# Altium footprint library Capacitors.PcbLib: 4 footprints
Each footprint in its own frame and in the unit in brackets; x right, y up, seen from the top. Pads: shape width x height; smd on the part's side, far side on the other; paste and mask are expansions set on the pad; w line width, h text height; cw(c..) or ccw(c..) is an arc to the next point about the centre after c.
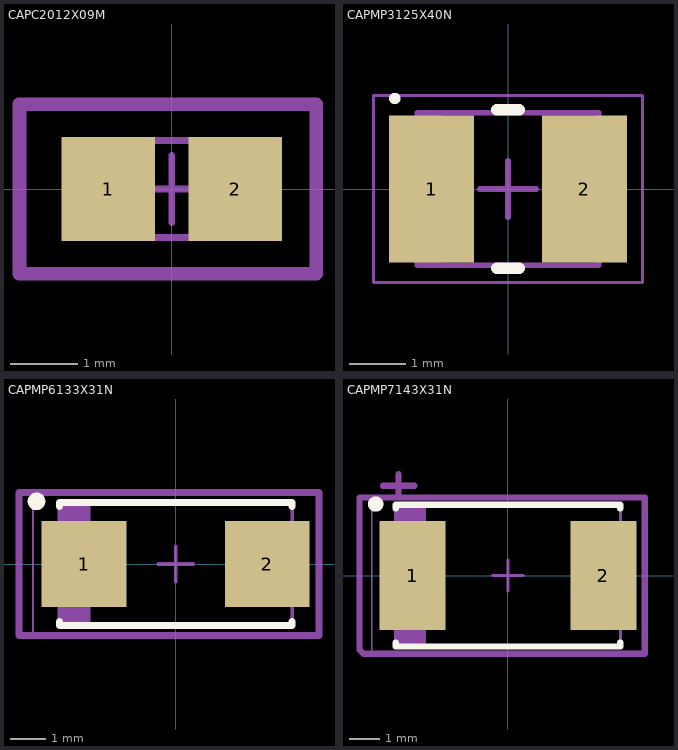
[diagram p0: the footprints below, top view; thin cyan lines are the x and y axes]

## CAPC2012X09M [mm] "Chip Capacitor, 2-Leads, Body 2,01x1,25mm, IPC Low Density"
height 0.94
pads (2):
  rect 1.4x1.55 smd: 1(-0.95,0) 2(0.95,0)
Mechanical 13:
  lines w0.1: -1.105,-0.725 1.105,-0.725 1.105,0.725 -1.105,0.725 -1.105,-0.725
Mechanical 15:
  lines w0.05: -2.2,-1.3 2.2,-1.3 2.2,1.3 -2.2,1.3 -2.2,-1.3
  lines w0.1: -0.5,0 0.5,0 ; 0,-0.5 0,0.5
AsmTop:
  lines w0.2: -2.286,-1.27 -2.286,1.27 2.159,1.27 2.159,-1.27 -2.286,-1.27
  text ".Comment" at -2.032,-0.635 h0.8
3D body: height 0.94, standoff 0, extent 0.605,-0.725 1.105,0.725
3D body: height 0.94, standoff 0, extent -1.105,-0.725 -0.605,0.725
3D body: height 0.94, standoff 0, extent -0.605,-0.725 0.605,0.725

## CAPMP3125X40N [mm] "Molded Capacitor, 2-Leads, Body 3,10x2,50mm, IPC Medium Density"
height 4
pads (2):
  rect 1.5x2.6 smd: 1(-1.35,0) 2(1.35,0)
Top Overlay:
  circle w0.1: c-2,1.6 r0.05
  lines w0.2: -0.2,-1.4 0.2,-1.4 ; -0.2,1.4 0.2,1.4
Mechanical 13:
  rectangle: -1.6,-1.35 -1.17,1.35
  lines w0.1: -1.6,-1.35 -1.6,1.35 1.6,1.35 1.6,-1.35 -1.6,-1.35
Mechanical 15:
  lines w0.05: -2.375,-1.65 -2.375,1.65 2.375,1.65 2.375,-1.65 -2.375,-1.65
  lines w0.1: -0.5,0 0.5,0 ; 0,-0.5 0,0.5
3D body: height 4, standoff 0, extent -1.6,-1.35 1.6,1.35

## CAPMP6133X31N [mm] "CASE C Molded Capacitor, 2-Leads, Body 6.15x3.30mm, IPC Medium Density"
height 3.1
pads (2):
  rect 2.4x2.45 smd: 1(-2.6,0) 2(2.6,0)
Top Overlay:
  circle w0.25: c-3.95,1.775 r0.125
  lines w0.2: -3.3,-1.625 -3.3,-1.75 3.3,-1.75 3.3,-1.625 ; -3.3,1.625 -3.3,1.75 3.3,1.75 3.3,1.625
Mechanical 13:
  rectangle: -3.3,-1.75 -2.412,1.75
  lines w0.1: -3.3,-1.75 -3.3,1.75 3.3,1.75 3.3,-1.75 -3.3,-1.75
Mechanical 15:
  lines w0.05: -4.05,-2 -4.05,2 4.05,2 4.05,-2 -4.05,-2
  lines w0.1: -0.5,0 0.5,0 ; 0,-0.5 0,0.5
AsmTop:
  lines w0.2: -4.445,-2.032 -4.445,2.032 4.064,2.032 4.064,-2.032 -4.445,-2.032
  text ".Comment" at -4.064,-0.508 h0.8
3D body: height 3.1, standoff 0, extent -3.3,-1.75 3.3,1.75

## CAPMP7143X31N [mm] "CASE D Molded Capacitor, 2-Leads, Body 7.15x4.30mm, IPC Medium Density"
height 3.1
pads (2):
  rect 2.15x3.55 smd: 1(-3.1,0) 2(3.1,0)
Top Overlay:
  circle w0.25: c-4.3,2.325 r0.125
  lines w0.2: -3.65,-2.175 -3.65,-2.3 3.65,-2.3 3.65,-2.175 ; -3.65,2.175 -3.65,2.3 3.65,2.3 3.65,2.175
Mechanical 13:
  rectangle: -3.65,-2.3 -2.668,2.3
  lines w0.1: -3.65,-2.3 3.65,-2.3 3.65,2.3 -3.65,2.3 -3.65,-2.3
Mechanical 15:
  lines w0.05: -4.425,-2.55 4.425,-2.55 4.425,2.55 -4.425,2.55 -4.425,-2.55
  lines w0.1: -0.5,0 0.5,0 ; 0,-0.5 0,0.5
AsmTop:
  lines w0.2: -4.064,2.921 -3.048,2.921 ; -3.556,2.667 -3.556,3.302 ; -4.826,-2.413 -4.826,2.54 4.445,2.54 4.445,-2.54 -4.699,-2.54 -4.826,-2.413
  text ".Comment" at -1.651,-0.254 h0.8
3D body: height 3.1, standoff 0, extent -3.65,-2.3 3.65,2.3